# EAGLE library part USB (library X893)
USB Connectors USB-B-PTH is fully proven SKU : PRT-00139 USB-miniB is fully proven SKU : PRT-00587 USB-A-PCB is untested. USB-A-H is throughly reviewed, but untested. Spark Fun Electronics SKU : PRT-00437 USB-B-SMT is throughly reviewed, but untested. Needs silkscreen touching up. USB-A-S has not been used/tested USB-MB-H has not been used/tested
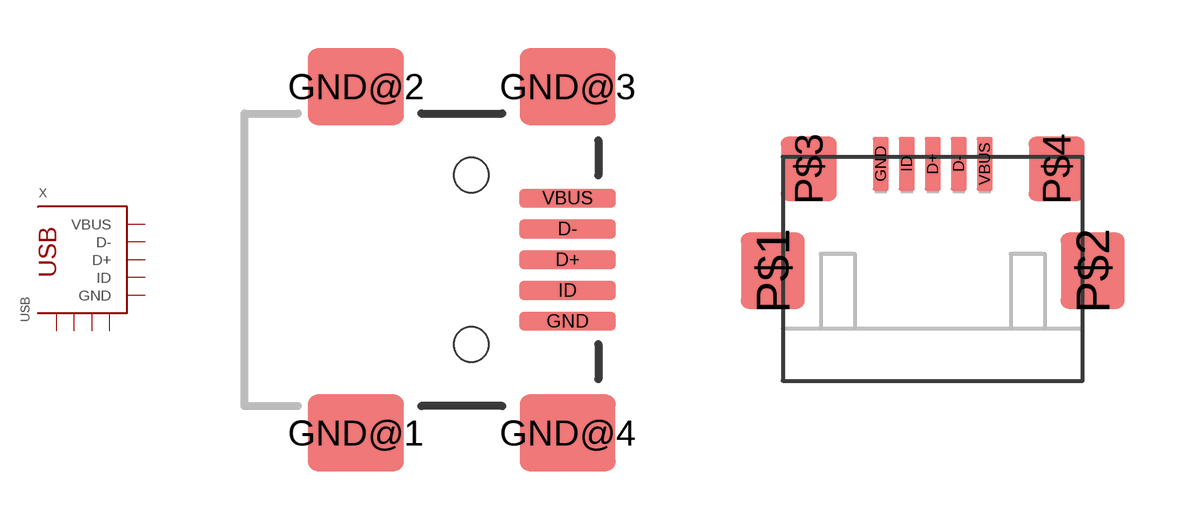
[diagram p8: symbol with the pads of USB-MINIB; footprints USB-MINIB, ZX62RD-AB-5P8]

Designator prefix X

## USB-SMD  [USB-MINIB]
D+  D+
D-  D-
GND  GND  pwr
GND@1  GND  pwr
GND@2  GND  pwr
GND@3  GND  pwr
GND@4  GND  pwr
ID  ID
VBUS  VBUS  pas

## USB-MICRO-ZX62RD  [ZX62RD-AB-5P8]
D+  D+
D-  D-
GND  GND  pwr
ID  ID
P$1  GND  pwr
P$2  GND  pwr
P$3  GND  pwr
P$4  GND  pwr
VBUS  VBUS  pas

## USB-ZX10  [ZX10-B-5S-UNIT(12)]
D+  D+
D-@0  D-
GND@1  GND  pwr
GND@2  GND  pwr
GND@3  GND  pwr
GND@4  GND  pwr
GND@5  GND  pwr
ID@0  ID
VUSB  VBUS  pas

## USB  [473460001]
1  VBUS  pas
2  D-
3  D+
4  ID
5  GND  pwr
EP@1  GND  pwr
EP@2  GND  pwr
EP@3  GND  pwr
EP@4  GND  pwr

## Footprint USB-MINIB (pad centres in mm)
USB Series Mini-B Surface Mounted
smd 2.5 x 0.5: D+ 2.5,0; D- 2.5,0.8; GND 2.5,-1.6; ID 2.5,-0.8; VBUS 2.5,1.6
smd 2.5 x 2: GND@1 -3,-4.5; GND@2 -3,4.5; GND@3 2.5,4.5; GND@4 2.5,-4.5
hole 0.9 at 0,2.2
hole 0.9 at 0,-2.2

## Footprint ZX62RD-AB-5P8 (pad centres in mm)
http://www.hirose.co.jp/cataloge_hp/e24200011.pdf
smd 0.4 x 1.35: D+ 0,4.125; D- 0.65,4.125; GND -1.3,4.125; ID -0.65,4.125; VBUS 1.3,4.125
smd 1.6 x 1.9: P$1 -4,1.45; P$2 4,1.45
smd 1.4 x 1.6: P$3 -3.1,4; P$4 3.1,4

## Footprint ZX10-B-5S-UNIT(12) (pad centres in mm)
http://www.hirose.co.jp/cataloge_hp/e24200011.pdf
smd 0.8 x 2: D+ 0,-1.9; GND@1 -1.3,-1.75; VUSB 1.3,-1.75
smd 0.8 x 1.8: D-@0 2.6,-1.4; ID@0 -2.6,-1.4
drill 0.4 pad 0.9: D-@1 2.6,-0.95; ID@1 -2.6,-0.95
drill 0.5 pad 0.9: D-@2 0.65,0.45; ID@2 -0.65,0.45
smd 0.5 x 0.5: GND@2 -1.25,-1.25; GND@3 -1.25,-1.5; GND@4 -1.25,-1.75; GND@5 -1.25,-2
hole 0.5 at -1.3,-1.05
hole 0.5 at 0,-1.25
hole 0.5 at 1.3,-1.05

## Footprint 473460001 (pad centres in mm)
Micro-USB B Receptacle with Flange, Bottom Mount, SMT http://www.molex.com/molex/products/datasheet.jsp?part=active/0473460001_IO_CONNECTORS.xml&channel=Products
smd 0.4 x 1.4: 1 -1.3,4.9; 2 -0.65,4.9; 3 0,4.9; 4 0.65,4.9; 5 1.3,4.9
smd 1.2 x 1.8: EP@1 -2.8,4.5; EP@3 2.8,4.5
smd 2 x 1.4: EP@2 -3.4,2.15; EP@4 3.4,2.15